# EAGLE library part CPL-CON-HEADER-0.1IN-6P-M (library TinWhiskers)
Connector: Header, 0.1"-Pitch, 6-Pos, Pins (Male)
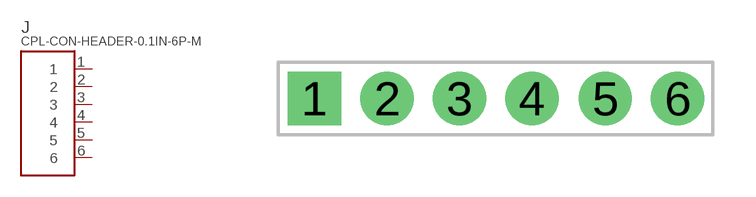
[diagram p15: symbol with the pads of CON-HDR-6POS-MALE; footprint CON-HDR-6POS-MALE]

Designator prefix J

## CPL-CON-HEADER-0.1IN-6P-M  [CON-HDR-6POS-MALE]
1  1
2  2
3  3
4  4
5  5
6  6

## Footprint CON-HDR-6POS-MALE (pad centres in mm)
drill 1.25 square: 1 -6.35,0
drill 1.25: 2 -3.8,0; 3 -1.26,0; 4 1.28,0; 5 3.85,0; 6 6.39,0